# EAGLE library part TPS54329E (library SM1000)
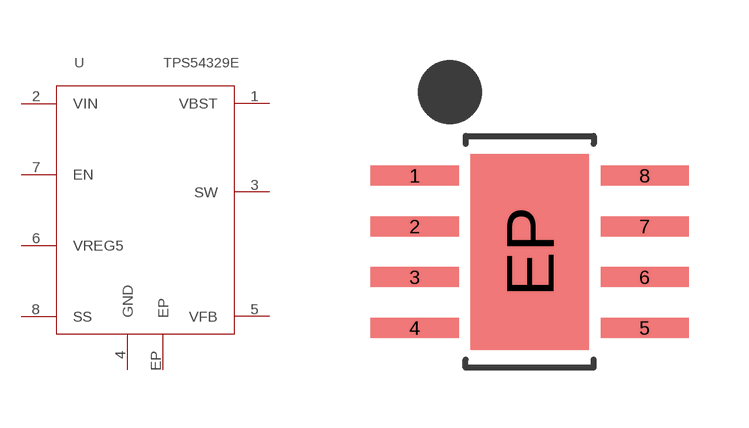
[diagram p10: symbol with the pads of PSO-DDA; footprint PSO-DDA]

Designator prefix U

## TPS54329E  [PSO-DDA]
1  VBST
2  VIN
3  SW
4  GND
5  VFB
6  VREG5
7  EN
8  SS
EP  EP

## Footprint PSO-DDA (pad centres in mm)
smd 2.2 x 0.5: 1 -2.875,1.905; 2 -2.875,0.635; 3 -2.875,-0.635; 4 -2.875,-1.905; 5 2.875,-1.905; 6 2.875,-0.635; 7 2.875,0.635; 8 2.875,1.905
smd 2.95 x 4.9: EP 0,0